# Altium schematic symbol library amd-mach.SCHLIB: 31 symbols (part 2 of 2)
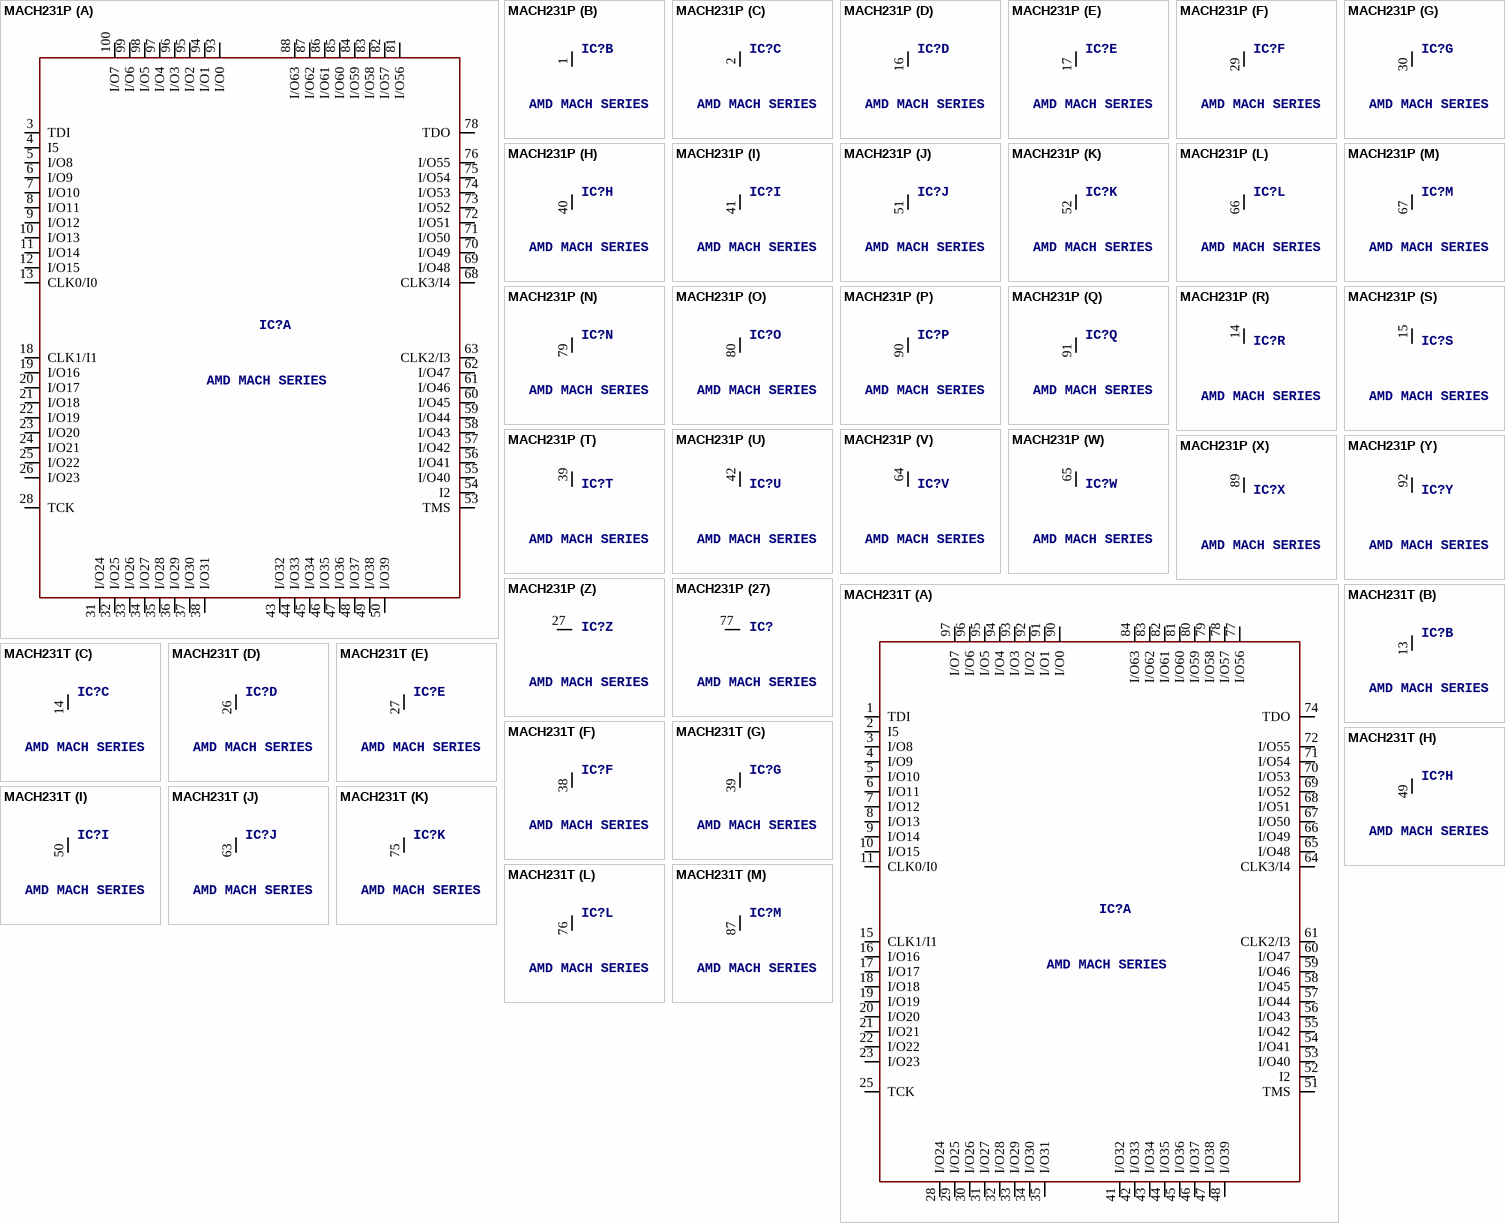
[diagram p12: symbols MACH231P to MACH231T]

## MACH231P
designator IC?, comment AMD MACH SERIES
OC_FARNELL: unknown; OC_NEWARK: unknown
footprint PQFP100
part A pins: 3 TDI, 4 I5, 5 I/O8, 6 I/O9, 7 I/O10, 8 I/O11, 9 I/O12, 10 I/O13, 11 I/O14, 12 I/O15, 13 CLK0/I0, 18 CLK1/I1, 19 I/O16, 20 I/O17, 21 I/O18, 22 I/O19, 23 I/O20, 24 I/O21, 25 I/O22, 26 I/O23, 28 TCK, 31 I/O24, 32 I/O25, 33 I/O26, 34 I/O27, 35 I/O28, 36 I/O29, 37 I/O30, 38 I/O31, 43 I/O32, 44 I/O33, 45 I/O34, 46 I/O35, 47 I/O36, 48 I/O37, 49 I/O38, 50 I/O39, 53 TMS, 54 I2, 55 I/O40, 56 I/O41, 57 I/O42, 58 I/O43, 59 I/O44, 60 I/O45, 61 I/O46, 62 I/O47, 63 CLK2/I3, 68 CLK3/I4, 69 I/O48, 70 I/O49, 71 I/O50, 72 I/O51, 73 I/O52, 74 I/O53, 75 I/O54, 76 I/O55, 78 TDO, 81 I/O56, 82 I/O57, 83 I/O58, 84 I/O59, 85 I/O60, 86 I/O61, 87 I/O62, 88 I/O63, 93 I/O0, 94 I/O1, 95 I/O2, 96 I/O3, 97 I/O4, 98 I/O5, 99 I/O6, 100 I/O7
part B pins: 1 GND (power)
part C pins: 2 GND (power)
part D pins: 16 GND (power)
part E pins: 17 GND (power)
part F pins: 29 GND (power)
part G pins: 30 GND (power)
part H pins: 40 GND (power)
part I pins: 41 GND (power)
part J pins: 51 GND (power)
part K pins: 52 GND (power)
part L pins: 66 GND (power)
part M pins: 67 GND (power)
part N pins: 79 GND (power)
part O pins: 80 GND (power)
part P pins: 90 GND (power)
part Q pins: 91 GND (power)
part R pins: 14 VCC (power)
part S pins: 15 VCC (power)
part T pins: 39 VCC (power)
part U pins: 42 VCC (power)
part V pins: 64 VCC (power)
part W pins: 65 VCC (power)
part X pins: 89 VCC (power)
part Y pins: 92 VCC (power)
part Z pins: 27 NC
part 27 pins: 77 NC

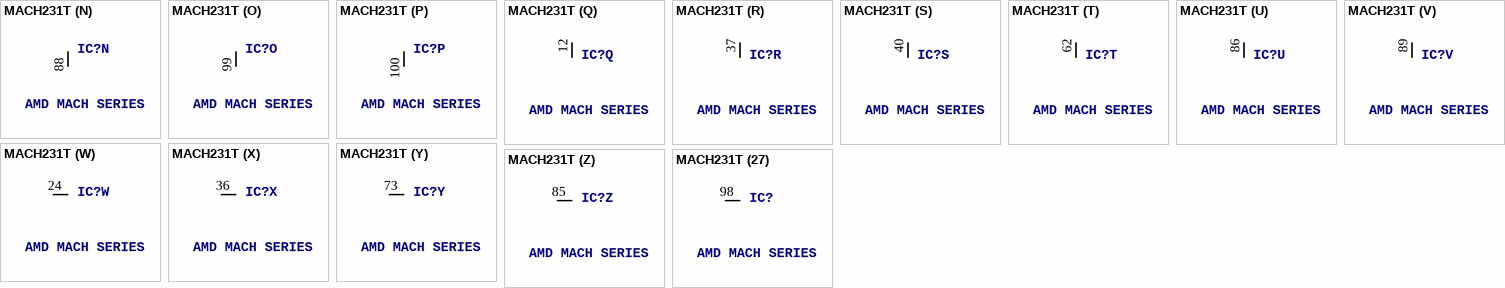
[diagram p11: symbol MACH231T]

## MACH231T
designator IC?, comment AMD MACH SERIES
OC_FARNELL: unknown; OC_NEWARK: unknown
footprint TQFP100
part A pins: 1 TDI, 2 I5, 3 I/O8, 4 I/O9, 5 I/O10, 6 I/O11, 7 I/O12, 8 I/O13, 9 I/O14, 10 I/O15, 11 CLK0/I0, 15 CLK1/I1, 16 I/O16, 17 I/O17, 18 I/O18, 19 I/O19, 20 I/O20, 21 I/O21, 22 I/O22, 23 I/O23, 25 TCK, 28 I/O24, 29 I/O25, 30 I/O26, 31 I/O27, 32 I/O28, 33 I/O29, 34 I/O30, 35 I/O31, 41 I/O32, 42 I/O33, 43 I/O34, 44 I/O35, 45 I/O36, 46 I/O37, 47 I/O38, 48 I/O39, 51 TMS, 52 I2, 53 I/O40, 54 I/O41, 55 I/O42, 56 I/O43, 57 I/O44, 58 I/O45, 59 I/O46, 60 I/O47, 61 CLK2/I3, 64 CLK3/I4, 65 I/O48, 66 I/O49, 67 I/O50, 68 I/O51, 69 I/O52, 70 I/O53, 71 I/O54, 72 I/O55, 74 TDO, 77 I/O56, 78 I/O57, 79 I/O58, 80 I/O59, 81 I/O60, 82 I/O61, 83 I/O62, 84 I/O63, 90 I/O0, 91 I/O1, 92 I/O2, 93 I/O3, 94 I/O4, 95 I/O5, 96 I/O6, 97 I/O7
part B pins: 13 GND (power)
part C pins: 14 GND (power)
part D pins: 26 GND (power)
part E pins: 27 GND (power)
part F pins: 38 GND (power)
part G pins: 39 GND (power)
part H pins: 49 GND (power)
part I pins: 50 GND (power)
part J pins: 63 GND (power)
part K pins: 75 GND (power)
part L pins: 76 GND (power)
part M pins: 87 GND (power)
part N pins: 88 GND (power)
part O pins: 99 GND (power)
part P pins: 100 GND (power)
part Q pins: 12 VCC (power)
part R pins: 37 VCC (power)
part S pins: 40 VCC (power)
part T pins: 62 VCC (power)
part U pins: 86 VCC (power)
part V pins: 89 VCC (power)
part W pins: 24 NC
part X pins: 36 NC
part Y pins: 73 NC
part Z pins: 85 NC
part 27 pins: 98 NC